# EAGLE library part ZXM64N02X (library xess)
N-Channel FET
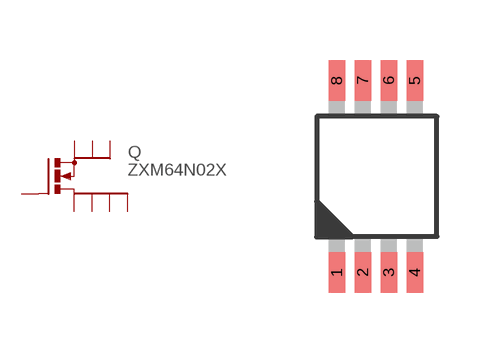
[diagram p44: symbol with the pads of MSOP8; footprint MSOP8]

Designator prefix Q

## ZXM64N02X  [MSOP8]
1  S1  pas
2  S2  pas
3  S3  pas
4  G  pas
5  D1  pas
6  D2  pas
7  D3  pas
8  D4  pas

## Footprint MSOP8 (pad centres in mm)
smd 0.41 x 1.02: 1 0,0; 2 0.65,0; 3 1.3,0; 4 1.95,0; 5 1.95,4.8; 6 1.3,4.8; 7 0.65,4.8; 8 0,4.8